# EAGLE library part GKHEAD (library 029000100  -  gKEagleLibrary)
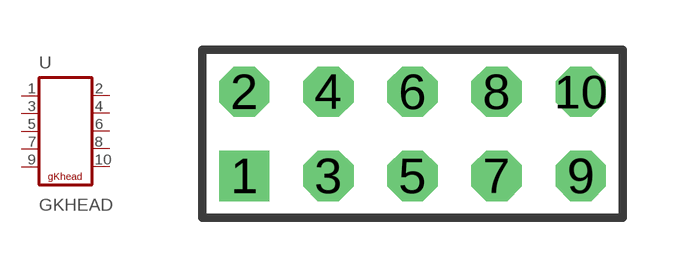
[diagram p4: symbol with the pads of HEAD10; footprint HEAD10]

Designator prefix -

## GKHEAD  [HEAD10]
1  1  pas
2  2  pwr
3  3  pas
4  4  pas
5  5  pas
6  6  pas
7  7  pas
8  8  pas
9  9  pwr
10  10  pwr

## Footprint HEAD10 (pad centres in mm)
drill 1.016 square: 1 1.27,1.27
drill 1.016 octagon: 2 1.27,3.81; 3 3.81,1.27; 4 3.81,3.81; 5 6.35,1.27; 6 6.35,3.81; 7 8.89,1.27; 8 8.89,3.81; 9 11.43,1.27; 10 11.43,3.81